# Altium footprint library OSC-QSMD3.2x1.5x0.75.PcbLib: 1 footprints
Each footprint in its own frame and in the unit in brackets; x right, y up, seen from the top. Pads: shape width x height; smd on the part's side, far side on the other; paste and mask are expansions set on the pad; w line width, h text height; cw(c..) or ccw(c..) is an arc to the next point about the centre after c.
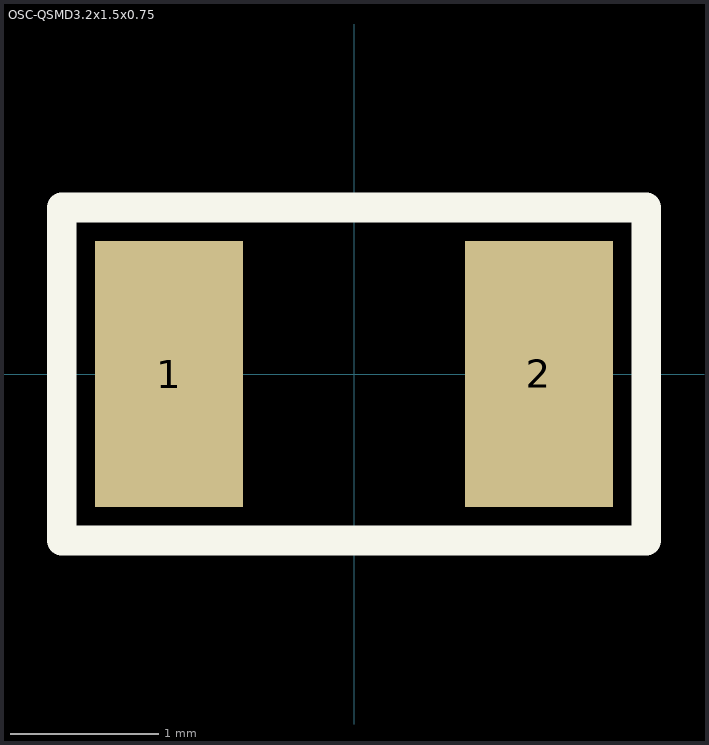
[diagram p0: the footprint, top view; thin cyan lines are the x and y axes]

## OSC-QSMD3.2x1.5x0.75 [mm]
pads (2):
  rect 1x1.8 smd: 1(-1.25,0) 2(1.25,0)
Top Overlay:
  lines w0.2: -1.975,-1.125 1.975,-1.125 1.975,1.125 -1.975,1.125 -1.975,-1.125
Top Assembly:
  lines w0.1: -1.95,-1.1 -1.95,1.1 1.4,1.1 1.95,1.1 1.95,0.5 1.95,-1.1 -1.95,-1.1
  text "'.Designator'" at -0.675,-0.375 h0.8
3D body "User Library-KX-327NHT-1.step": height 0.71, standoff 0, extent -1.6,-0.75 1.6,0.75